# Altium footprint library JST-XH.PcbLib: 1 footprints
Each footprint in its own frame and in the unit in brackets; x right, y up, seen from the top. Pads: shape width x height; smd on the part's side, far side on the other; paste and mask are expansions set on the pad; w line width, h text height; cw(c..) or ccw(c..) is an arc to the next point about the centre after c.
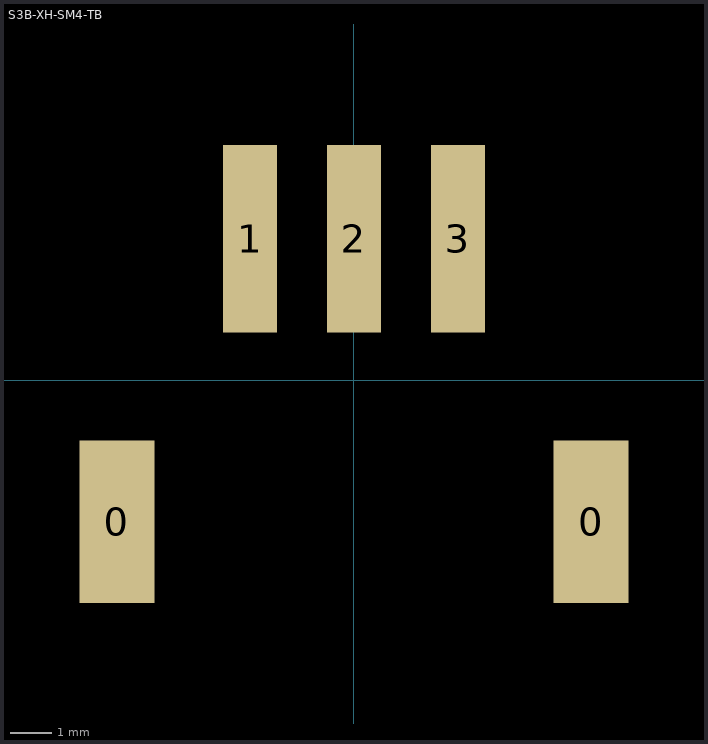
[diagram p0: the footprint, top view; thin cyan lines are the x and y axes]

## S3B-XH-SM4-TB [mm] "JST XH 3POS"
height 6
pads (5):
  rect 1.8x3.9 smd: 0(-5.7,-3.4) 0(5.7,-3.4)
  rect 1.3x4.5 smd: 1(-2.5,3.4) 2(0,3.4) 3(2.5,3.4)
3D body "S3B-XH-SM4-TB.STEP": height 6, standoff 0, extent -6.225,-5.25 6.225,4.75